# Altium schematic symbol library Project_LIB.SchLib: 9 symbols
Pins are listed as number, name and electrical type; pins without a type are passive.

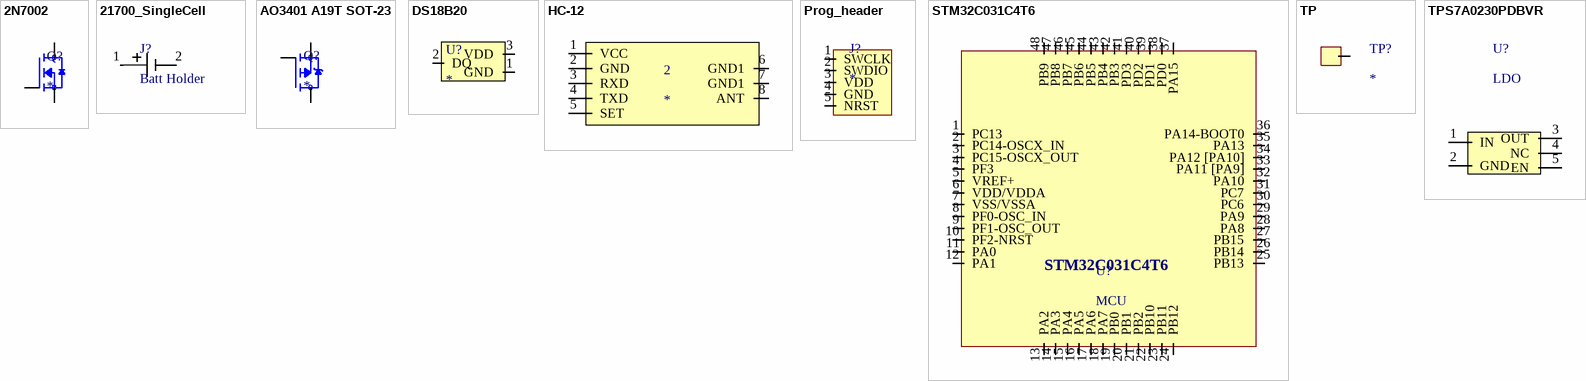
[diagram p0: symbols 2N7002 to TPS7A0230PDBVR]

## 2N7002
designator Q?
N-channel MOSFET
footprint 2N7002 (N-Channel 60 V 115mA 225mW Surface Mount SOT-23)
pins: 1 G, 2 S, 3 D

## 21700_SingleCell
designator J?, comment Batt Holder
21700 battery holder
footprint 21700_batt_holder
pins: 1 11, 2 12

## AO3401 A19T SOT-23
designator Q?
P-Channel MOSFET
footprint AO3401 A19T SOT-23 (P-channel MOSFET)
pins: 1 G, 2 S, 3 D

## DS18B20
designator U?
Temp senspr sealed detached.
footprint DS18B20
pins: 1 GND (power), 2 DQ, 3 VDD (power)

## HC-12
designator 2
HC-12
footprint HC-12
pins: 1 VCC, 2 GND, 3 RXD, 4 TXD, 5 SET, 6 GND1, 7 GND1, 8 ANT

## Prog_header
designator J?
footprint Prog_header (SWDIO programming header)
pins: 1 SWCLK, 2 SWDIO, 3 VDD, 4 GND, 5 NRST

## STM32C031C4T6
designator U?, comment MCU
footprint STM32C031C4T6
pins: 1 PC13, 2 PC14-OSCX_IN, 3 PC15-OSCX_OUT, 4 PF3, 5 VREF+, 6 VDD/VDDA, 7 VSS/VSSA, 8 PF0-OSC_IN, 9 PF1-OSC_OUT, 10 PF2-NRST, 11 PA0, 12 PA1, 13 PA2, 14 PA3, 15 PA4, 16 PA5, 17 PA6, 18 PA7, 19 PB0, 20 PB1, 21 PB2, 22 PB10, 23 PB11, 24 PB12, 25 PB13, 26 PB14, 27 PB15, 28 PA8, 29 PA9, 30 PC6, 31 PC7, 32 PA10, 33 PA11 [PA9], 34 PA12 [PA10], 35 PA13, 36 PA14-BOOT0, 37 PA15, 38 PD0, 39 PD1, 40 PD2, 41 PD3, 42 PB3, 43 PB4, 44 PB5, 45 PB6, 46 PB7, 47 PB8, 48 PB9

## TP
designator TP?
footprint TP
pins: 1

## TPS7A0230PDBVR
designator U?, comment LDO
LDO 3V
footprint TPS7A0230PDBVR (Package/Case: SOT-23-5 3V)
pins: 1 IN, 2 GND, 3 OUT, 4 NC, 5 EN